# Altium footprint library maxstream.PcbLib: 1 footprints
Each footprint in its own frame and in the unit in brackets; x right, y up, seen from the top. Pads: shape width x height; smd on the part's side, far side on the other; paste and mask are expansions set on the pad; w line width, h text height; cw(c..) or ccw(c..) is an arc to the next point about the centre after c.
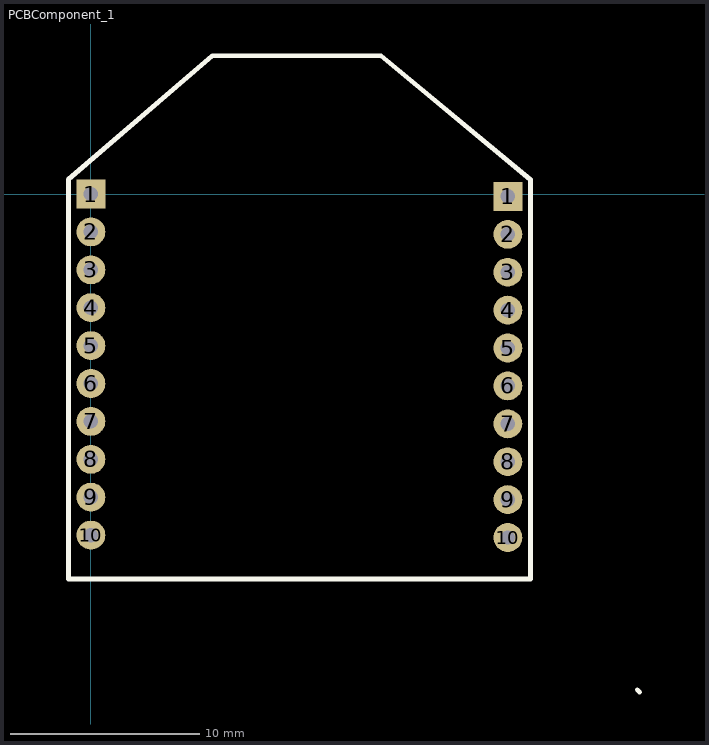
[diagram p0: the footprint, top view; thin cyan lines are the x and y axes]

## PCBComponent_1 [mil]
pads (20):
  rect 60x60 hole 30: 1(0,0) 1(866.14,-5)
  round 60 hole 30: 2(0,-78.74) 2(866.14,-83.74) 3(0,-157.48) 3(866.14,-162.48) 4(0,-236.22) 4(866.14,-241.22) 5(0,-314.96) 5(866.14,-319.96) 6(0,-393.7) 6(866.14,-398.7) 7(0,-472.44) 7(866.14,-477.44) 8(0,-551.18) 8(866.14,-556.18) 9(0,-629.92) 9(866.14,-634.92) 10(0,-708.66) 10(866.14,-713.66)
Top Overlay:
  lines w10: 1135,-1030 1140,-1035 ; -46.85,-799.92 912.99,-799.92 912.99,30 602.44,287.09 251.97,287.09 -46.85,30 -46.85,-799.92